# EAGLE library part CONN_SCREWTERM_SOCKET_5.08MM_12POS (library power_distro)
TERM BLOCK HDR 12POS 5.08MM
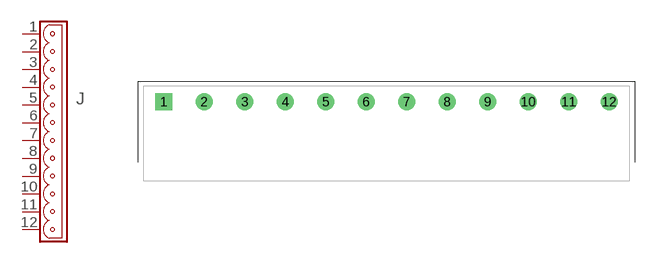
[diagram p9: symbol with the pads of CONN_1X12X5.08; footprint CONN_1X12X5.08]

Designator prefix J

## CONN_SCREWTERM_SOCKET_5.08MM_12POS (MFG: AMPHENOL; MPN: 20020110-H121A01LF; PRICE: 2.63; VENDOR: DIGIKEY; VPN: 609-3916-ND)  [CONN_1X12X5.08]
1  1  pas
2  2  pas
3  3  pas
4  4  pas
5  5  pas
6  6  pas
7  7  pas
8  8  pas
9  9  pas
10  10  pas
11  11  pas
12  12  pas

## Footprint CONN_1X12X5.08 (pad centres in mm)
1x12x5.08mm socket for screw terminal strip
drill 1.4 square: 1 -27.94,0
drill 1.4 round: 2 -22.86,0; 3 -17.78,0; 4 -12.7,0; 5 -7.62,0; 6 -2.54,0; 7 2.54,0; 8 7.62,0; 9 12.7,0; 10 17.78,0; 11 22.86,0; 12 27.94,0